# EAGLE library part LPC2129FBD64/01,15 (library NXP_By_element14_Batch_1)
Single-chip 16/32-bit microcontrollers 64/128/256 kB ISP/IAP flash with 10-bit ADC and CAN
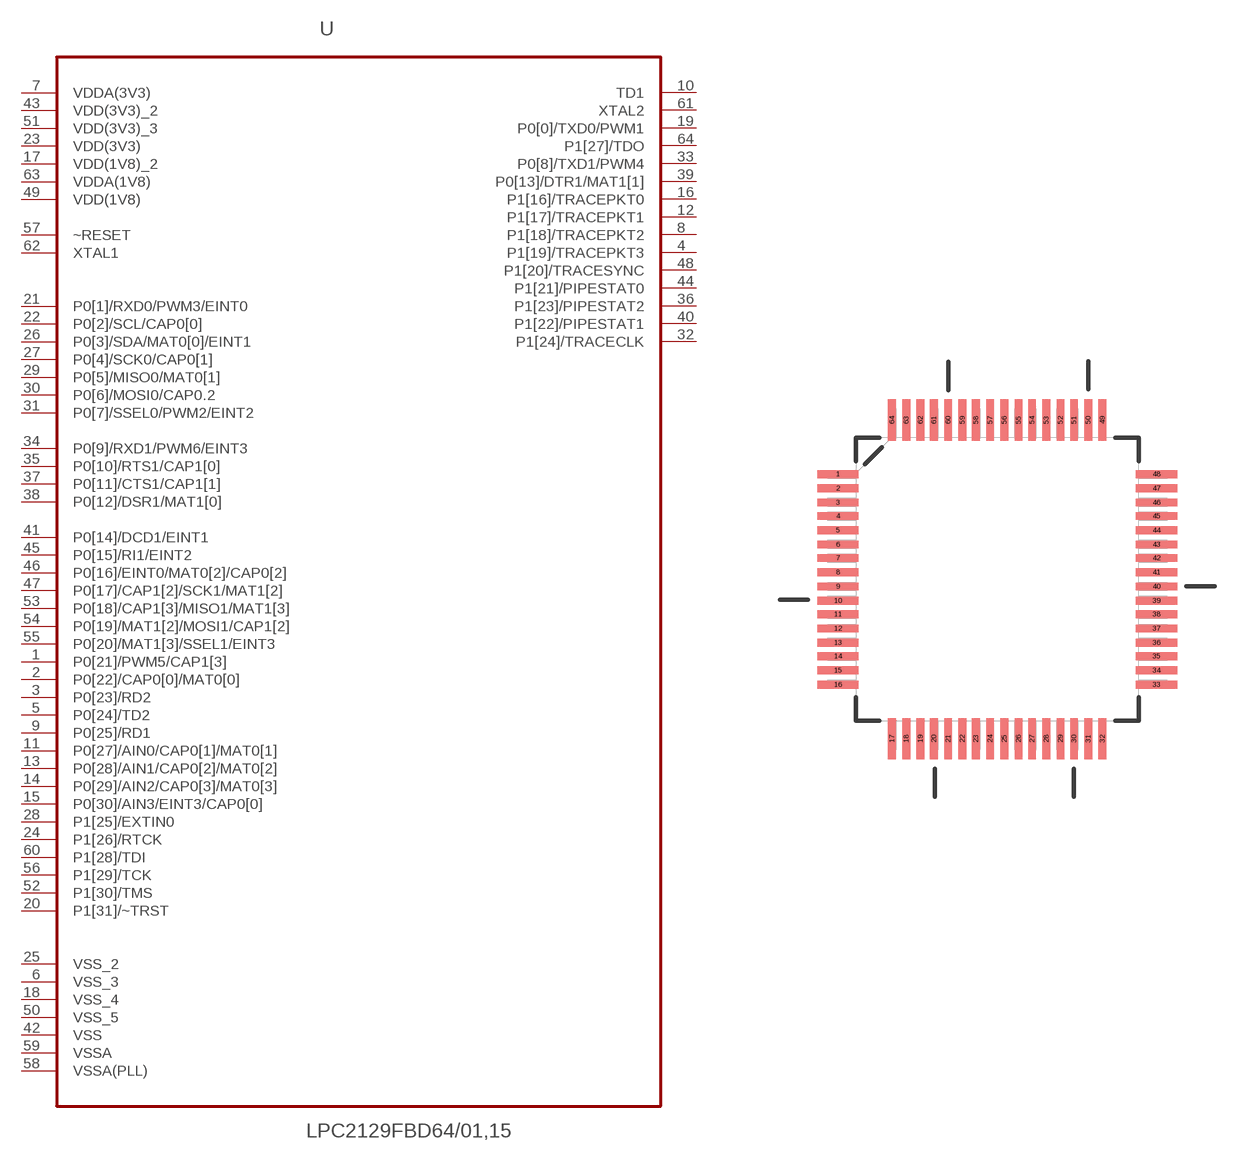
[diagram p363: symbol with the pads of QFP50P1200X1200X160-64N; footprint QFP50P1200X1200X160-64N]

Designator prefix U

## LPC2129FBD64/01,15 (MPN: LPC2129FBD64/01,15; OC_FARNELL: 1831175; OC_NEWARK: 70R5619; P1I: o; PACKAGE: QFP-64; SUPPLIER: NXP)  [QFP50P1200X1200X160-64N]
1  P0[21]/PWM5/CAP1[3]
2  P0[22]/CAP0[0]/MAT0[0]
3  P0[23]/RD2
4  P1[19]/TRACEPKT3  out
5  P0[24]/TD2
6  VSS_3  pas
7  VDDA(3V3)  pwr
8  P1[18]/TRACEPKT2  out
9  P0[25]/RD1
10  TD1  out
11  P0[27]/AIN0/CAP0[1]/MAT0[1]
12  P1[17]/TRACEPKT1  out
13  P0[28]/AIN1/CAP0[2]/MAT0[2]
14  P0[29]/AIN2/CAP0[3]/MAT0[3]
15  P0[30]/AIN3/EINT3/CAP0[0]  in
16  P1[16]/TRACEPKT0  out
17  VDD(1V8)_2  pwr
18  VSS_4
19  P0[0]/TXD0/PWM1  out
20  P1[31]/~TRST  in
21  P0[1]/RXD0/PWM3/EINT0
22  P0[2]/SCL/CAP0[0]
23  VDD(3V3)
24  P1[26]/RTCK
25  VSS_2  pas
26  P0[3]/SDA/MAT0[0]/EINT1
27  P0[4]/SCK0/CAP0[1]
28  P1[25]/EXTIN0
29  P0[5]/MISO0/MAT0[1]
30  P0[6]/MOSI0/CAP0.2
31  P0[7]/SSEL0/PWM2/EINT2
32  P1[24]/TRACECLK  out
33  P0[8]/TXD1/PWM4  out
34  P0[9]/RXD1/PWM6/EINT3
35  P0[10]/RTS1/CAP1[0]
36  P1[23]/PIPESTAT2  out
37  P0[11]/CTS1/CAP1[1]  in
38  P0[12]/DSR1/MAT1[0]  pas
39  P0[13]/DTR1/MAT1[1]  out
40  P1[22]/PIPESTAT1  out
41  P0[14]/DCD1/EINT1  in
42  VSS  pas
43  VDD(3V3)_2  pwr
44  P1[21]/PIPESTAT0  out
45  P0[15]/RI1/EINT2  in
46  P0[16]/EINT0/MAT0[2]/CAP0[2]
47  P0[17]/CAP1[2]/SCK1/MAT1[2]
48  P1[20]/TRACESYNC  out
49  VDD(1V8)  pwr
50  VSS_5  pas
51  VDD(3V3)_3  pwr
52  P1[30]/TMS  in
53  P0[18]/CAP1[3]/MISO1/MAT1[3]
54  P0[19]/MAT1[2]/MOSI1/CAP1[2]
55  P0[20]/MAT1[3]/SSEL1/EINT3
56  P1[29]/TCK  in
57  ~RESET  in
58  VSSA(PLL)  pas
59  VSSA  pas
60  P1[28]/TDI  in
61  XTAL2  out
62  XTAL1  in
63  VDDA(1V8)  pwr
64  P1[27]/TDO  out

## Footprint QFP50P1200X1200X160-64N (pad centres in mm)
smd 1.473 x 0.279: 1 -5.69,3.759; 2 -5.69,3.251; 3 -5.69,2.743; 4 -5.69,2.261; 5 -5.69,1.753; 6 -5.69,1.245; 7 -5.69,0.762; 8 -5.69,0.254; 9 -5.69,-0.254; 10 -5.69,-0.762; 11 -5.69,-1.245; 12 -5.69,-1.753; 13 -5.69,-2.261; 14 -5.69,-2.743; 15 -5.69,-3.251; 16 -5.69,-3.759; 33 5.69,-3.759; 34 5.69,-3.251; 35 5.69,-2.743; 36 5.69,-2.261; 37 5.69,-1.753; 38 5.69,-1.245; 39 5.69,-0.762; 40 5.69,-0.254; 41 5.69,0.254; 42 5.69,0.762; 43 5.69,1.245; 44 5.69,1.753; 45 5.69,2.261; 46 5.69,2.743; 47 5.69,3.251; 48 5.69,3.759
smd 0.279 x 1.473: 17 -3.759,-5.69; 18 -3.251,-5.69; 19 -2.743,-5.69; 20 -2.261,-5.69; 21 -1.753,-5.69; 22 -1.245,-5.69; 23 -0.762,-5.69; 24 -0.254,-5.69; 25 0.254,-5.69; 26 0.762,-5.69; 27 1.245,-5.69; 28 1.753,-5.69; 29 2.261,-5.69; 30 2.743,-5.69; 31 3.251,-5.69; 32 3.759,-5.69; 49 3.759,5.69; 50 3.251,5.69; 51 2.743,5.69; 52 2.261,5.69; 53 1.753,5.69; 54 1.245,5.69; 55 0.762,5.69; 56 0.254,5.69; 57 -0.254,5.69; 58 -0.762,5.69; 59 -1.245,5.69; 60 -1.753,5.69; 61 -2.261,5.69; 62 -2.743,5.69; 63 -3.251,5.69; 64 -3.759,5.69